# Altium footprint library Chip Capacitor.PcbLib: 33 footprints (part 1 of 3)
Each footprint in its own frame and in the unit in brackets; x right, y up, seen from the top. Pads: shape width x height; smd on the part's side, far side on the other; paste and mask are expansions set on the pad; w line width, h text height; cw(c..) or ccw(c..) is an arc to the next point about the centre after c.
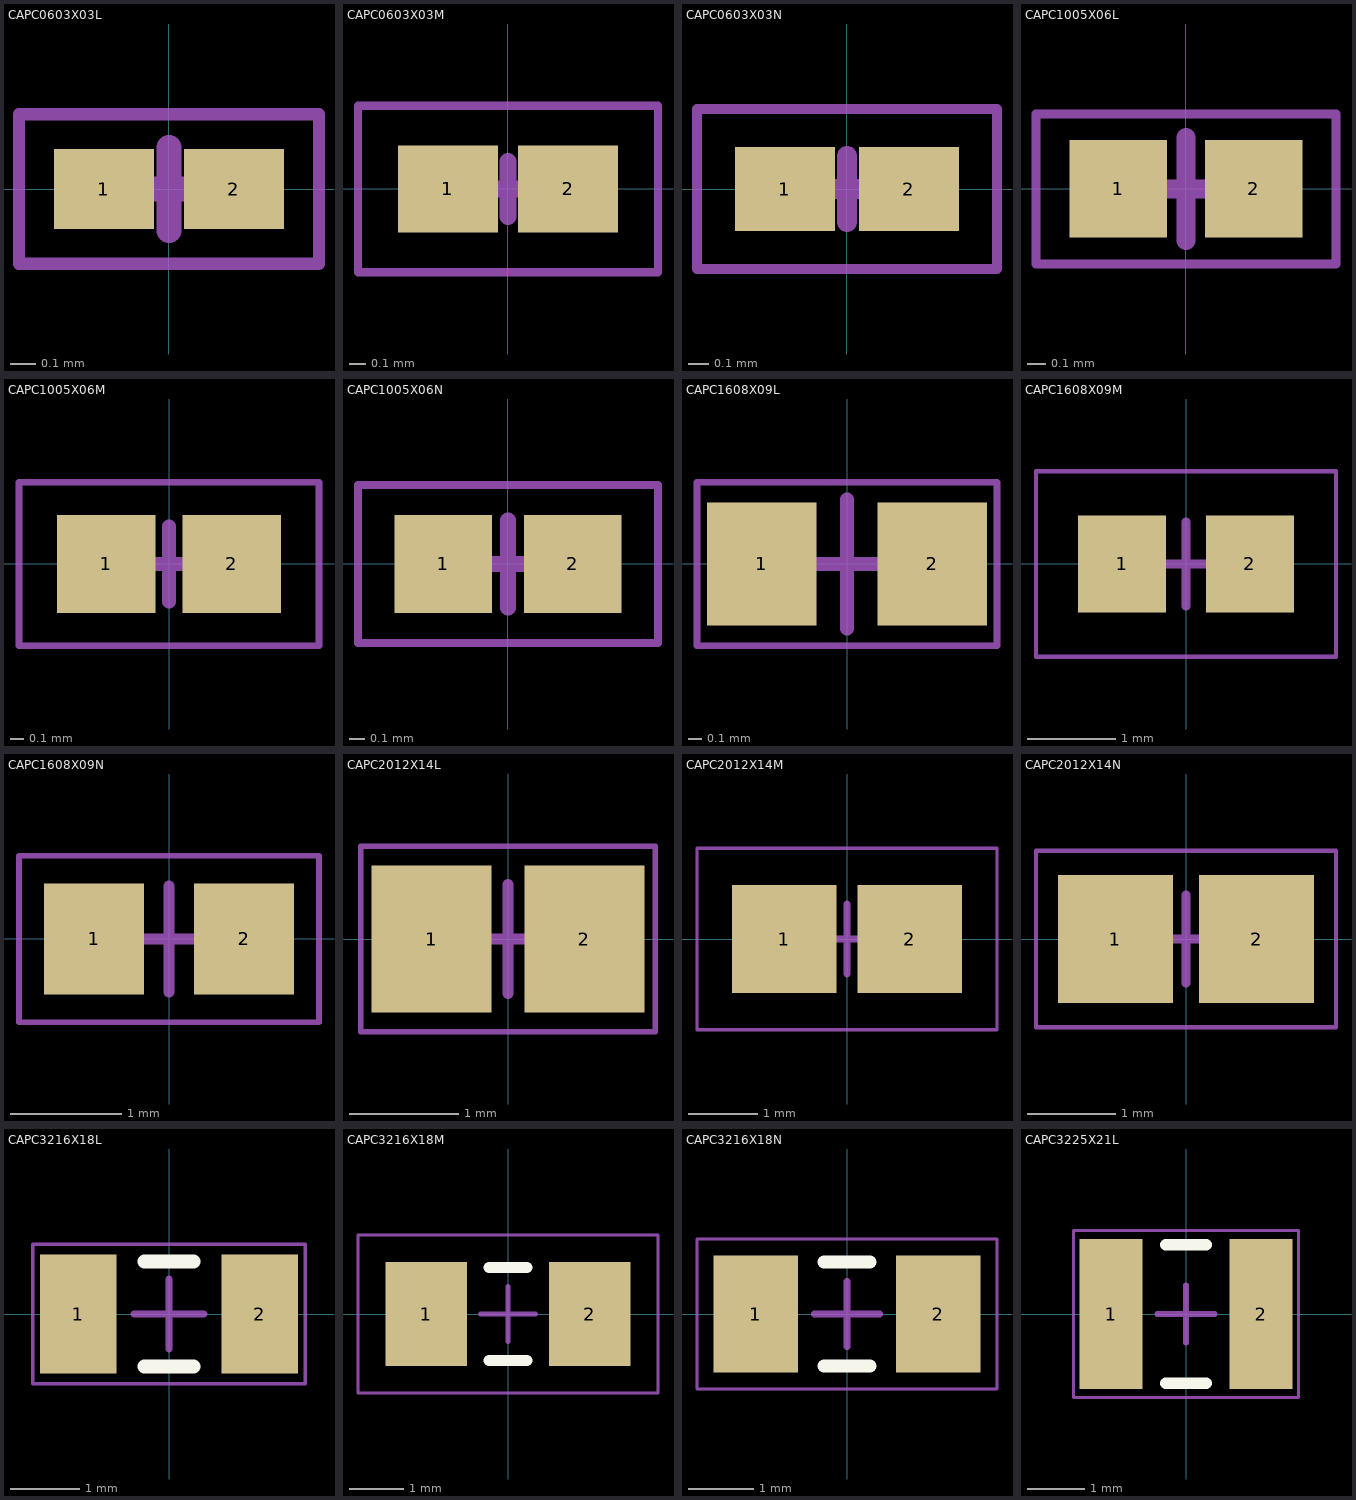
[diagram p0: the footprints below, top view; thin cyan lines are the x and y axes]

## CAPC0603X03L [mm] "Chip Capacitor, Body 0.6x0.3mm, IPC High Density (0201 Imperial)"
height 0.33
pads (2):
  rect 0.4x0.32 smd: 1(-0.26,0) 2(0.26,0)
Mechanical 15:
  lines w0.05: -0.6,-0.3 -0.6,0.3 0.6,0.3 0.6,-0.3 -0.6,-0.3
  lines w0.1: -0.165,0 0.165,0 ; 0,-0.165 0,0.165
3D body "CAPC0603X03L.STEP": height 0.28, standoff -0.02, extent -0.3,-0.15 0.3,0.15

## CAPC0603X03M [mm] "Chip Capacitor, Body 0.6x0.3mm, IPC Low Density (0201 Imperial)"
height 0.33
pads (2):
  rect 0.6x0.52 smd: 1(-0.36,0) 2(0.36,0)
Mechanical 15:
  lines w0.05: -0.9,-0.5 -0.9,0.5 0.9,0.5 0.9,-0.5 -0.9,-0.5
  lines w0.1: -0.165,0 0.165,0 ; 0,-0.165 0,0.165
3D body "CAPC0603X03L.STEP": height 0.28, standoff -0.02, extent -0.3,-0.15 0.3,0.15

## CAPC0603X03N [mm] "Chip Capacitor, Body 0.6x0.3mm, IPC Medium Density (0201 Imperial)"
height 0.33
pads (2):
  rect 0.5x0.42 smd: 1(-0.31,0) 2(0.31,0)
Mechanical 15:
  lines w0.05: -0.75,-0.4 0.75,-0.4 0.75,0.4 -0.75,0.4 -0.75,-0.4
  lines w0.1: -0.165,0 0.165,0 ; 0,-0.165 0,0.165
3D body "CAPC0603X03L.STEP": height 0.28, standoff -0.02, extent -0.3,-0.15 0.3,0.15

## CAPC1005X06L [mm] "Chip Capacitor, Body 1.0x0.5mm, IPC High Density (0402 Imperial)"
height 0.6
pads (2):
  rect 0.52x0.52 smd: 1(-0.36,0) 2(0.36,0)
Mechanical 15:
  lines w0.05: -0.8,-0.4 -0.8,0.4 0.8,0.4 0.8,-0.4 -0.8,-0.4
  lines w0.1: -0.275,0 0.275,0 ; 0,-0.275 0,0.275
3D body "CAPC1005X06L.STEP": height 0.46, standoff -0.04, extent -0.5,-0.25 0.5,0.25

## CAPC1005X06M [mm] "Chip Capacitor, Body 1.0x0.5mm, IPC Low Density (0402 Imperial)"
height 0.6
pads (2):
  rect 0.72x0.72 smd: 1(-0.46,0) 2(0.46,0)
Mechanical 15:
  lines w0.05: -1.1,-0.6 -1.1,0.6 1.1,0.6 1.1,-0.6 -1.1,-0.6
  lines w0.1: -0.275,0 0.275,0 ; 0,-0.275 0,0.275
3D body "CAPC1005X06L.STEP": height 0.46, standoff -0.04, extent -0.5,-0.25 0.5,0.25

## CAPC1005X06N [mm] "Chip Capacitor, Body 1.0x0.5mm, IPC Medium Density (0402 Imperial)"
height 0.6
pads (2):
  rect 0.62x0.62 smd: 1(-0.41,0) 2(0.41,0)
Mechanical 15:
  lines w0.05: -0.95,-0.5 0.95,-0.5 0.95,0.5 -0.95,0.5 -0.95,-0.5
  lines w0.1: -0.275,0 0.275,0 ; 0,-0.275 0,0.275
3D body "CAPC1005X06L.STEP": height 0.46, standoff -0.04, extent -0.5,-0.25 0.5,0.25

## CAPC1608X09L [mm] "Chip Capacitor, Body 1.6x0.8mm, IPC High Density (0603 Imperial)"
height 0.92
pads (2):
  rect 0.8x0.9 smd: 1(-0.625,0) 2(0.625,0)
Mechanical 15:
  lines w0.05: -1.1,-0.6 -1.1,0.6 1.1,0.6 1.1,-0.6 -1.1,-0.6
  lines w0.1: -0.475,0 0.475,0 ; 0,-0.475 0,0.475
3D body "CAPC1608X09L.STEP": height 0.78, standoff -0.02, extent -0.8,-0.4 0.8,0.4

## CAPC1608X09M [mm] "Chip Capacitor, Body 1.6x0.8mm, IPC Low Density (0603 Imperial)"
height 0.92
pads (2):
  rect 1x1.1 smd: 1(-0.725,0) 2(0.725,0)
Mechanical 15:
  lines w0.05: -1.7,-1.05 -1.7,1.05 1.7,1.05 1.7,-1.05 -1.7,-1.05
  lines w0.1: -0.475,0 0.475,0 ; 0,-0.475 0,0.475
3D body "CAPC1608X09L.STEP": height 0.78, standoff -0.02, extent -0.8,-0.4 0.8,0.4

## CAPC1608X09N [mm] "Chip Capacitor, Body 1.6x0.8mm, IPC Medium Density (0603 Imperial)"
height 0.92
pads (2):
  rect 0.9x1 smd: 1(-0.675,0) 2(0.675,0)
Mechanical 15:
  lines w0.05: -1.35,-0.75 1.35,-0.75 1.35,0.75 -1.35,0.75 -1.35,-0.75
  lines w0.1: -0.475,0 0.475,0 ; 0,-0.475 0,0.475
3D body "CAPC1608X09L.STEP": height 0.78, standoff -0.02, extent -0.8,-0.4 0.8,0.4

## CAPC2012X14L [mm] "Chip Capacitor, Body 2.0x1.2mm, IPC High Density (0805 Imperial)"
height 1.4
pads (2):
  rect 1.1x1.35 smd: 1(-0.7,0) 2(0.7,0)
Mechanical 15:
  lines w0.05: -1.35,-0.85 -1.35,0.85 1.35,0.85 1.35,-0.85 -1.35,-0.85
  lines w0.1: -0.5,0 0.5,0 ; 0,-0.5 0,0.5
3D body "CAPC2012X14L.STEP": height 0.58, standoff -0.02, extent -1,-0.625 1,0.625

## CAPC2012X14M [mm] "Chip Capacitor, Body 2.0x1.2mm, IPC Low Density (0805 Imperial)"
height 1.4
pads (2):
  rect 1.5x1.55 smd: 1(-0.9,0) 2(0.9,0)
Mechanical 15:
  lines w0.05: -2.15,-1.3 2.15,-1.3 2.15,1.3 -2.15,1.3 -2.15,-1.3
  lines w0.1: -0.5,0 0.5,0 ; 0,-0.5 0,0.5
3D body "CAPC2012X14L.STEP": height 0.58, standoff -0.02, extent -1,-0.625 1,0.625

## CAPC2012X14N [mm] "Chip Capacitor, Body 2.0x1.2mm, IPC Medium Density (0805 Imperial)"
height 1.4
pads (2):
  rect 1.3x1.45 smd: 1(-0.8,0) 2(0.8,0)
Mechanical 15:
  lines w0.05: -1.7,-1 1.7,-1 1.7,1 -1.7,1 -1.7,-1
  lines w0.1: -0.5,0 0.5,0 ; 0,-0.5 0,0.5
3D body "CAPC2012X14L.STEP": height 0.58, standoff -0.02, extent -1,-0.625 1,0.625

## CAPC3216X18L [mm] "Chip Capacitor, Body 3.2x1.6mm, IPC High Density (1206 Imperial)"
height 1.8
pads (2):
  rect 1.1x1.7 smd: 1(-1.3,0) 2(1.3,0)
Top Overlay:
  lines w0.2: -0.35,-0.75 0.35,-0.75 ; -0.35,0.75 0.35,0.75
Mechanical 15:
  lines w0.05: -1.95,-1 -1.95,1 1.95,1 1.95,-1 -1.95,-1
  lines w0.1: -0.5,0 0.5,0 ; 0,-0.5 0,0.5
3D body "CAPC3216X18L.STEP": height 0.77, standoff -0.01, extent -1.6,-0.8 1.6,0.8

## CAPC3216X18M [mm] "Chip Capacitor, Body 3.2x1.6mm, IPC Low Density (1206 Imperial)"
height 1.8
pads (2):
  rect 1.5x1.9 smd: 1(-1.5,0) 2(1.5,0)
Top Overlay:
  lines w0.2: -0.35,-0.85 0.35,-0.85 ; -0.35,0.85 0.35,0.85
Mechanical 15:
  lines w0.05: -2.75,-1.45 2.75,-1.45 2.75,1.45 -2.75,1.45 -2.75,-1.45
  lines w0.1: -0.5,0 0.5,0 ; 0,-0.5 0,0.5
3D body "CAPC3216X18L.STEP": height 0.77, standoff -0.01, extent -1.6,-0.8 1.6,0.8

## CAPC3216X18N [mm] "Chip Capacitor, Body 3.2x1.6mm, IPC Medium Density (1206 Imperial)"
height 1.8
pads (2):
  rect 1.3x1.8 smd: 1(-1.4,0) 2(1.4,0)
Top Overlay:
  lines w0.2: -0.35,-0.8 0.35,-0.8 ; -0.35,0.8 0.35,0.8
Mechanical 15:
  lines w0.05: -2.3,-1.15 -2.3,1.15 2.3,1.15 2.3,-1.15 -2.3,-1.15
  lines w0.1: -0.5,0 0.5,0 ; 0,-0.5 0,0.5
3D body "CAPC3216X18L.STEP": height 0.77, standoff -0.01, extent -1.6,-0.8 1.6,0.8

## CAPC3225X21L [mm] "Chip Capacitor, Body 3.2x2.5mm, IPC High Density (1210 Imperial)"
height 2.05
pads (2):
  rect 1.1x2.6 smd: 1(-1.3,0) 2(1.3,0)
Top Overlay:
  lines w0.2: -0.35,-1.2 0.35,-1.2 ; -0.35,1.2 0.35,1.2
Mechanical 15:
  lines w0.05: -1.95,-1.45 1.95,-1.45 1.95,1.45 -1.95,1.45 -1.95,-1.45
  lines w0.1: -0.5,0 0.5,0 ; 0,-0.5 0,0.5
3D body "CAPC3225X21L.STEP": height 0.77, standoff -0.01, extent -1.6,-1.25 1.6,1.25